# EAGLE library part NJW4131 (library !NJW4131)
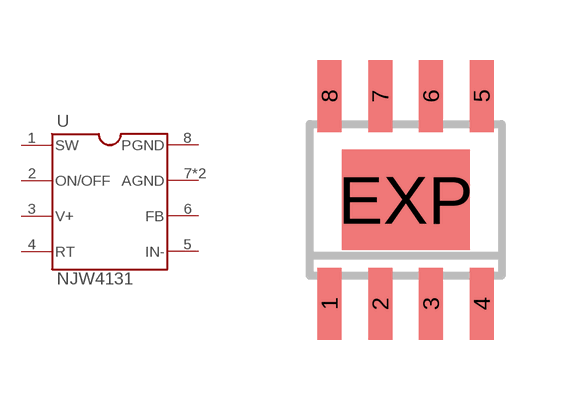
[diagram p0: symbol with the pads of HSOP8; footprint HSOP8]

Designator prefix -

## NJW4131  [HSOP8]
1  SW  pas
2  ON/OFF  pas
3  V+  pas
4  RT  pas
5  IN-  pas
6  FB  pas
7  AGND  pas
8  PGND  pas
EXP  AGND  pas

## Footprint HSOP8 (pad centres in mm)
HSOP 08 (Exposed pad) Source: http://www.st.com/internet/com/TECHNICAL_RESOURCES/TECHNICAL_LITERATURE/DATASHEET/CD00002851.pdf
smd 0.6 x 1.8: 1 -1.905,-2.6; 2 -0.635,-2.6; 3 0.635,-2.6; 4 1.905,-2.6; 5 1.905,2.6; 6 0.635,2.6; 7 -0.635,2.6; 8 -1.905,2.6
smd 3.2 x 2.51: EXP 0,0